# Altium footprint library key4x3 .PcbLib: 1 footprints
Each footprint in its own frame and in the unit in brackets; x right, y up, seen from the top. Pads: shape width x height; smd on the part's side, far side on the other; paste and mask are expansions set on the pad; w line width, h text height; cw(c..) or ccw(c..) is an arc to the next point about the centre after c.
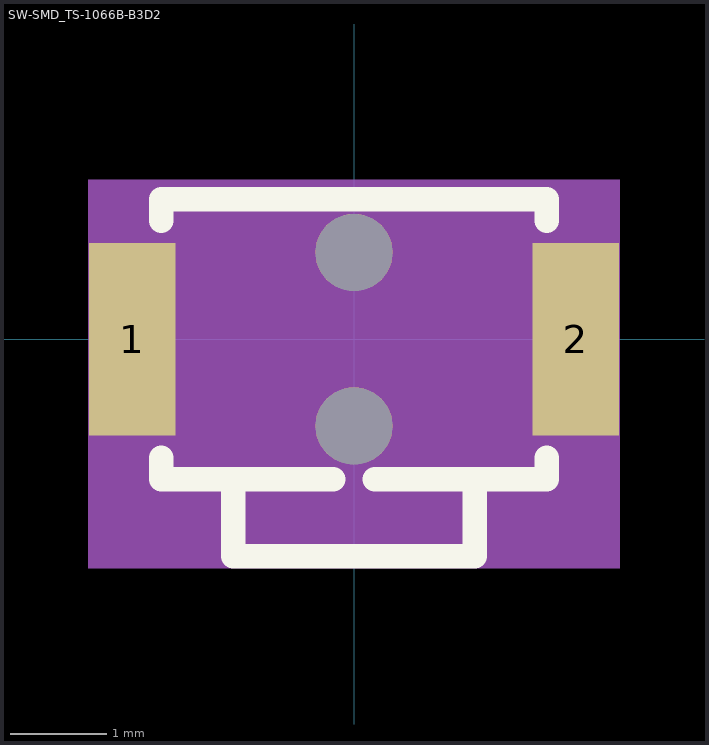
[diagram p0: the footprint, top view; thin cyan lines are the x and y axes]

## SW-SMD_TS-1066B-B3D2 [mm]
pads (4):
  rect 0.9x2 smd: 1(-2.3,0) 2(2.3,0)
  round 0.8 hole 0.8 unplated: ""(0,-0.9) ""(0,0.9)
Top Overlay:
  lines w0.254: -2,-1.231 -2,-1.45 -0.217,-1.45 ; -2,1.231 -2,1.45 2,1.45 2,1.231 ; -1.25,-1.45 -1.25,-2.25 1.25,-2.25 1.25,-1.45 ; 0.217,-1.45 2,-1.45 2,-1.231
Mechanical 4:
  circle w0.4: c0,-0.9 r0.2
  circle w0.4: c0,0.9 r0.2
  region: -2.757,1.656 2.755,1.656 2.755,-2.377 -2.757,-2.377
Mechanical 5:
  circle w0.127: c0,-0.9 r0.4
  circle w0.127: c0,0.9 r0.4
  region: 1.85,1 2.75,1 2.75,-1 1.85,-1
  region: -2.75,1 -1.85,1 -1.85,-1 -2.75,-1